# Altium schematic symbol library SN74HCS273PWR.SchLib: 1 symbol
Pins are listed as number, name and electrical type; pins without a type are passive.

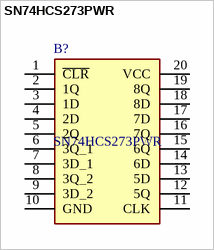
[diagram p0: symbol SN74HCS273PWR]

## SN74HCS273PWR
designator B?
Flip Flops Octal D-type flip-flops with clear with Schmitt-trigger inputs; Manufacturer_Name: Texas Instruments; Geometry.Height: 1.2mm; Mouser Part Number: 595-SN74HCS273PWR; Mouser Price/Stock: https://www.mouser.co.uk/ProductDetail/Texas-Instruments/SN74HCS273PWR?qs=QNEnbhJQKvYIJo9rBWLKyw%3D%3D; Manufacturer_Part_Number: SN74HCS273PWR; Datasheet Link: https://www.ti.com/general/docs/suppproductinfo.tsp?distId=26&gotoUrl=https://www.ti.com/lit/gpn/sn74hcs273
footprint SOP65P640X120-20N
pins: 1 ~{CLR}, 2 1Q, 3 1D, 4 2D, 5 2Q, 6 3Q_1, 7 3D_1, 8 3Q_2, 9 3D_2, 10 GND, 11 CLK, 12 5Q, 13 5D, 14 6D, 15 6Q, 16 7Q, 17 7D, 18 8D, 19 8Q, 20 VCC